# EAGLE library part SS-22D03_VG4 (library Seeed-OPL-2017-01-Switch-camilo)
311010100
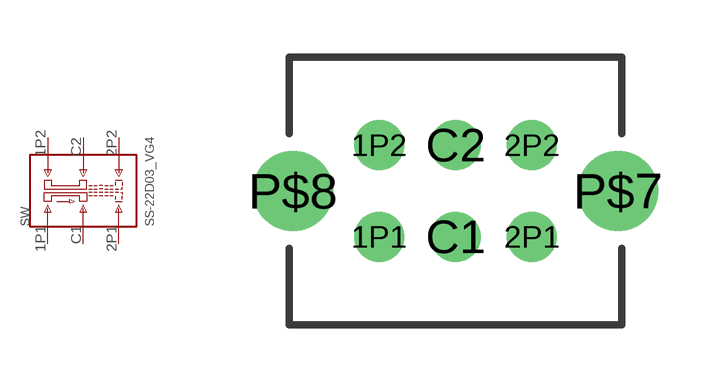
[diagram p2: symbol with the pads of SS-22D03_VG4; footprint SS-22D03_VG4]

Designator prefix SW

## SS-22D03_VG4  [SS-22D03_VG4]
1P1  1P1
1P2  1P2
2P1  2P1
2P2  2P2
C1  C1
C2  C2

## Footprint SS-22D03_VG4 (pad centres in mm)
drill 0.8: 1P1 -2,-1.2; 1P2 -2,1.2; 2P1 2,-1.2; 2P2 2,1.2; C1 0,-1.2; C2 0,1.2
drill 1.4: P$7 4.25,0; P$8 -4.25,0